# Altium schematic symbol library L0603.Schlib: 1 symbol
Pins are listed as number, name and electrical type; pins without a type are passive.

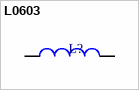
[diagram p0: symbol L0603]

## L0603
designator L?  (value not drawn)
0603 Chip Inductor - Standard
pins: 1, 2